# Altium schematic symbol library 74xx Series.SchLib: 2 symbols
Pins are listed as number, name and electrical type; pins without a type are passive.

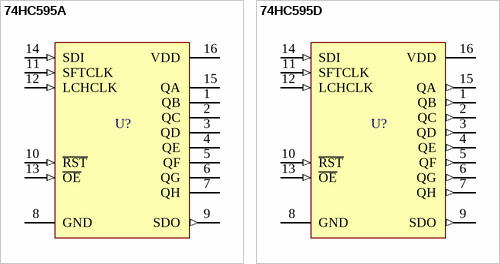
[diagram p0: symbols 74HC595A to 74HC595D]

## 74HC595A
designator U?  (value not drawn)
Open Collector Output; Mounting_Type: Surface_Mount; SAPO_CODE: 330720; SAPO_NAME: SM74HC595A - SOP16 Open colector output
footprint SOIC16
footprint DIP 16
pins: 1 QB (oc), 2 QC (oc), 3 QD (oc), 4 QE (oc), 5 QF (oc), 6 QG (oc), 7 QH (oc), 8 GND (power), 9 SDO (out), 10 ~{RST} (in), 11 SFTCLK (in), 12 LCHCLK (in), 13 ~{OE} (in), 14 SDI (in), 15 QA (oc), 16 VDD (power)

## 74HC595D
designator U?  (value not drawn)
Mounting_Type: Surface_Mount; SAPO_CODE: 330260; SAPO_NAME: 74HC595D-SOP16
footprint DIP-16
footprint SOP-16
pins: 1 QB (out), 2 QC (out), 3 QD (out), 4 QE (out), 5 QF (out), 6 QG (out), 7 QH (out), 8 GND (power), 9 SDO (out), 10 ~{RST} (in), 11 SFTCLK (in), 12 LCHCLK (in), 13 ~{OE} (in), 14 SDI (in), 15 QA (out), 16 VDD (power)